# Altium schematic symbol library SCH - MCU - INFINEON XMC - INFINEON XMC1200T038.SchLib: 1 symbol
Pins are listed as number, name and electrical type; pins without a type are passive.

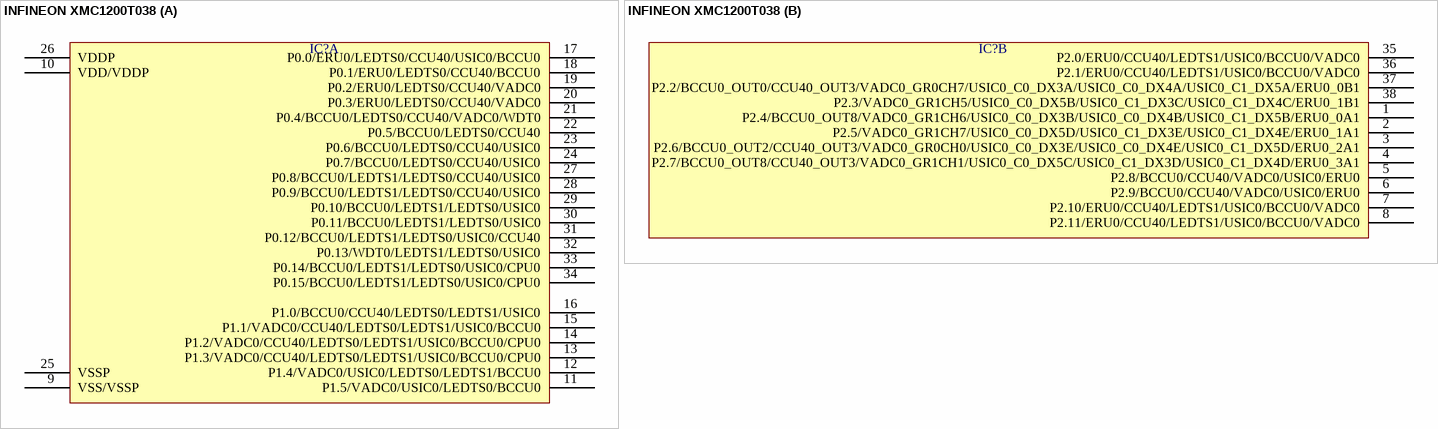
[diagram p0: symbol INFINEON XMC1200T038]

## INFINEON XMC1200T038
designator IC?  (value not drawn)
part A pins: 9 VSS/VSSP, 10 VDD/VDDP, 11 P1.5/VADC0/USIC0/LEDTS0/BCCU0, 12 P1.4/VADC0/USIC0/LEDTS0/LEDTS1/BCCU0, 13 P1.3/VADC0/CCU40/LEDTS0/LEDTS1/USIC0/BCCU0/CPU0, 14 P1.2/VADC0/CCU40/LEDTS0/LEDTS1/USIC0/BCCU0/CPU0, 15 P1.1/VADC0/CCU40/LEDTS0/LEDTS1/USIC0/BCCU0, 16 P1.0/BCCU0/CCU40/LEDTS0/LEDTS1/USIC0, 17 P0.0/ERU0/LEDTS0/CCU40/USIC0/BCCU0, 18 P0.1/ERU0/LEDTS0/CCU40/BCCU0, 19 P0.2/ERU0/LEDTS0/CCU40/VADC0, 20 P0.3/ERU0/LEDTS0/CCU40/VADC0, 21 P0.4/BCCU0/LEDTS0/CCU40/VADC0/WDT0, 22 P0.5/BCCU0/LEDTS0/CCU40, 23 P0.6/BCCU0/LEDTS0/CCU40/USIC0, 24 P0.7/BCCU0/LEDTS0/CCU40/USIC0, 25 VSSP, 26 VDDP, 27 P0.8/BCCU0/LEDTS1/LEDTS0/CCU40/USIC0, 28 P0.9/BCCU0/LEDTS1/LEDTS0/CCU40/USIC0, 29 P0.10/BCCU0/LEDTS1/LEDTS0/USIC0, 30 P0.11/BCCU0/LEDTS1/LEDTS0/USIC0, 31 P0.12/BCCU0/LEDTS1/LEDTS0/USIC0/CCU40, 32 P0.13/WDT0/LEDTS1/LEDTS0/USIC0, 33 P0.14/BCCU0/LEDTS1/LEDTS0/USIC0/CPU0, 34 P0.15/BCCU0/LEDTS1/LEDTS0/USIC0/CPU0
part B pins: 1 P2.4/BCCU0_OUT8/VADC0_GR1CH6/USIC0_C0_DX3B/USIC0_C0_DX4B/USIC0_C1_DX5B/ERU0_0A1, 2 P2.5/VADC0_GR1CH7/USIC0_C0_DX5D/USIC0_C1_DX3E/USIC0_C1_DX4E/ERU0_1A1, 3 P2.6/BCCU0_OUT2/CCU40_OUT3/VADC0_GR0CH0/USIC0_C0_DX3E/USIC0_C0_DX4E/USIC0_C1_DX5D/ERU0_2A1, 4 P2.7/BCCU0_OUT8/CCU40_OUT3/VADC0_GR1CH1/USIC0_C0_DX5C/USIC0_C1_DX3D/USIC0_C1_DX4D/ERU0_3A1, 5 P2.8/BCCU0/CCU40/VADC0/USIC0/ERU0, 6 P2.9/BCCU0/CCU40/VADC0/USIC0/ERU0, 7 P2.10/ERU0/CCU40/LEDTS1/USIC0/BCCU0/VADC0, 8 P2.11/ERU0/CCU40/LEDTS1/USIC0/BCCU0/VADC0, 35 P2.0/ERU0/CCU40/LEDTS1/USIC0/BCCU0/VADC0, 36 P2.1/ERU0/CCU40/LEDTS1/USIC0/BCCU0/VADC0, 37 P2.2/BCCU0_OUT0/CCU40_OUT3/VADC0_GR0CH7/USIC0_C0_DX3A/USIC0_C0_DX4A/USIC0_C1_DX5A/ERU0_0B1, 38 P2.3/VADC0_GR1CH5/USIC0_C0_DX5B/USIC0_C1_DX3C/USIC0_C1_DX4C/ERU0_1B1